# Altium footprint library PCB_PassiveCap.PcbLib: 27 footprints (part 2 of 2)
Each footprint in its own frame and in the unit in brackets; x right, y up, seen from the top. Pads: shape width x height; smd on the part's side, far side on the other; paste and mask are expansions set on the pad; w line width, h text height; cw(c..) or ccw(c..) is an arc to the next point about the centre after c.
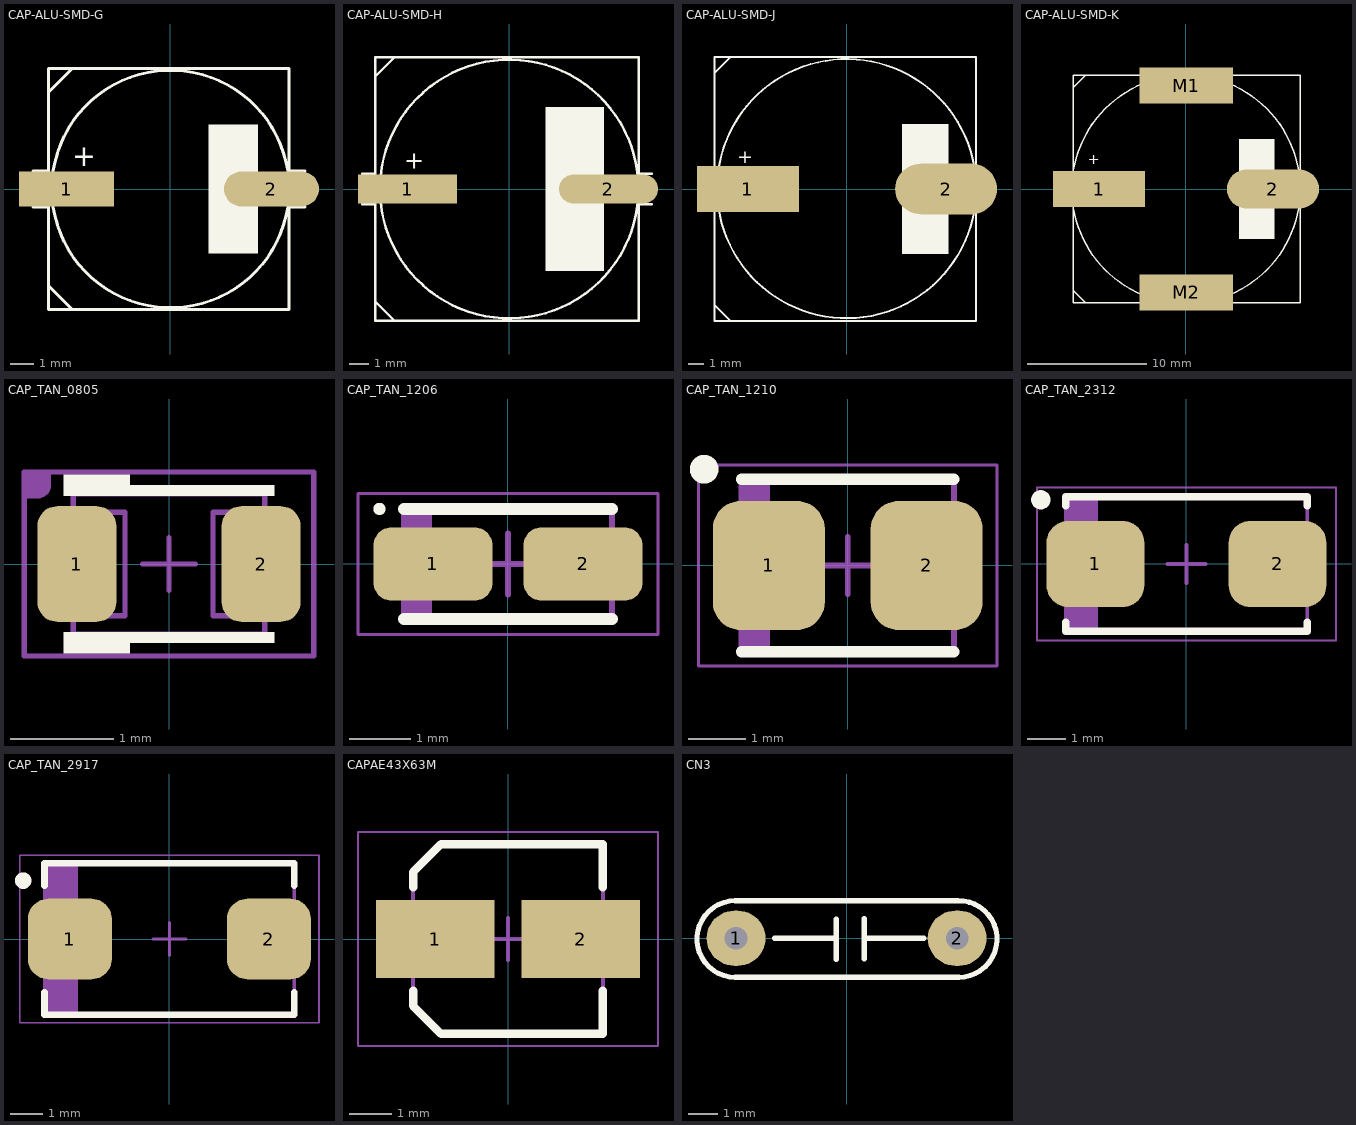
[diagram p1: the footprints below, top view; thin cyan lines are the x and y axes]

## CAP-ALU-SMD-G [mil]
pads (2):
  rect 160x59.06 smd: 1(-175,0)
  oval 160x59.06 smd: 2(170,0)
Top Overlay:
  circle w5: c0,0 r199.81
  rectangle: 63.98,-108.27 147.64,108.27
  lines w5: -231.3,-30.51 -205.71,-30.51 ; -231.3,30.51 -205.71,30.51 ; -205.71,-163.39 -205.71,0 ; -205.71,-104.33 -205.71,0 ; -205.71,104.33 -205.71,0 ; -205.71,163.39 -205.71,0 ; -204.72,-163.39 -165.35,-202.76 ; -204.72,163.39 -165.35,202.76 ; 199.8,-30.51 226.38,-30.51 ; 199.81,0 ccw(c39.37,0) 199.8,0.99 ; 199.8,30.51 226.38,30.51 ; -205.71,-202.76 199.8,-202.76 199.8,-0.98 ; -205.71,-202.76 -205.71,-202.76 ; -205.71,-202.76 -205.71,0 ; -205.71,-129.92 -205.71,-129.92 ; -205.71,-129.92 -205.71,0 ; -205.71,0 -205.71,202.76 ; -205.71,0 -205.71,129.92 ; -205.71,129.92 -205.71,129.92 ; -205.71,202.76 199.8,202.76 199.8,0.98 ; -205.71,202.76 -205.71,202.76 ; 199.8,-0.98 199.8,-0.98 ; 199.8,0.98 199.8,0.98
  text "+" at -165.35,38.39 h35
3D body "User Library-ALU-G.STEP": height 401.57, standoff 0, extent -233.35,-202.75 223.34,202.76

## CAP-ALU-SMD-H [mm]
pads (2):
  rect 5.08x1.5 smd: 1(-5.207,0)
  oval 5.08x1.5 smd: 2(5.08,0)
Top Overlay:
  circle w0.127: c0,0 r6.625
  rectangle: 1.85,-4.2 4.85,4.2
  lines w0.127: -7.525,-0.775 -6.875,-0.775 ; -7.525,0.775 -6.875,0.775 ; -6.875,-5.75 -5.875,-6.75 ; -6.875,5.75 -5.875,6.75 ; 6.625,-0.775 7.3,-0.775 ; 6.625,0.775 7.3,0.775 ; -6.875,-6.75 -6.875,0 -6.875,6.75 ; -6.875,-6.75 -6.875,-6.75 ; -6.875,-6.75 6.625,-6.75 6.625,0 6.625,6.75 -6.875,6.75 ; -6.875,6.75 -6.875,6.75 ; -6.875,-5.15 -6.875,-5.15 ; -6.875,5.15 -6.875,5.15
  text "+" at -5.375,1.05 h0.89
3D body "User Library-capacitor size H13.step": height 13.5, standoff -0.01, extent -7.154,-6.877 6.646,6.623

## CAP-ALU-SMD-J [mm]
pads (2):
  rect 6.6x3 smd: 1(-6.425,0)
  oval 6.6x3.3 smd: 2(6.425,0)
Top Overlay:
  rectangle: 3.575,-4.2 6.575,4.2
  lines w0.127: -8.575,-7.55 -7.575,-8.55 ; -8.575,7.55 -7.575,8.55 ; 8.375,0.025 ccw(c-0.025,0.025) 8.375,0 ; -8.6,-6.75 -8.6,0 ; -8.6,-6.75 -8.6,-6.75 ; -8.6,0 -8.6,8.55 8.35,8.55 8.375,8.575 8.375,0 ; -8.6,0 -8.6,6.75 ; -8.6,0 -8.6,-8.55 8.35,-8.55 8.375,-8.575 8.375,0 ; -8.6,6.75 -8.6,6.75 ; -8.6,-5.15 -8.6,-5.15 ; -8.6,5.15 -8.6,5.15
  text "+" at -7.125,1.675 h0.89
3D body "User Library-capacitor size J16.step": height 16.5, standoff -0.01, extent -8.977,-8.5 8.723,8.5

## CAP-ALU-SMD-K [mm]
pads (4):
  rect 7.7x3 smd: 1(-7.275,0)
  oval 7.7x3.3 smd: 2(7.275,0)
  rect 7.8x3 smd: M1(0.025,8.65) M2(0.025,-8.65)
Top Overlay:
  circle w0.127: c0,-0.025 r9.55
  rectangle: 4.425,-4.2 7.425,4.2
  lines w0.127: -9.45,-8.55 -9.45,0 ; -9.45,8.55 -9.45,0 ; -9.425,-8.5 -8.425,-9.5 ; -9.425,8.5 -8.425,9.5 ; 9.55,-0.025 9.55,-9.5 -9.45,-9.5 ; 9.55,0.025 9.55,9.5 -9.45,9.5 ; -9.45,-9.5 -9.45,0 ; -9.45,-9.5 -9.45,-9.5 ; -9.45,-6.75 -9.45,-6.75 ; -9.45,-6.75 -9.45,0 ; -9.45,0 -9.45,6.75 ; -9.45,0 -9.45,9.5 ; -9.45,6.75 -9.45,6.75 ; -9.45,9.5 -9.45,9.5 ; -9.45,-5.15 -9.45,-5.15 ; -9.45,5.15 -9.45,5.15
  text "+" at -8.2,2.075 h0.89
3D body "User Library-capacitor size K16.step": height 16.5, standoff -0.01, extent -10.05,-9.5 10.05,9.5

## CAP_TAN_0805 [mil]
height 59.06
pads (2):
  rrect50% 30x44 smd: 1(-35,0) 2(35,0)
Top Overlay:
  region: 40,-30 -15,-30 -15,-34 -40,-34 -40,-26 40,-26
  region: 40,26 -40,26 -40,34 -15,34 -15,30 40,30
Mechanical 13:
  lines w2: -10,0 10,0 ; 0,-10 0,10 ; -40.35,-19.68 -40.35,19.68 -16.73,19.68 -16.73,-19.68 -40.35,-19.68 ; -36.42,-26.57 36.42,-26.57 36.42,26.57 -36.42,26.57 -36.42,-26.57 ; 16.73,-19.68 16.73,19.68 40.35,19.68 40.35,-19.68 16.73,-19.68
T-Component:
  region: -55,35 -45,35 -45,30 -45,29.01 -45.76,27.17 -47.17,25.76 -49.01,25 -50,25 -55,25
  lines w2: -55,-35 -55,35 55,35 55,-35 -55,-35
3D body "CAPMP2012X150N.STEP": height 59.06, standoff 0, extent -40.35,-26.57 40.36,26.58

## CAP_TAN_1206 [mm] "Molded Capacitor, 2-Leads, Body 3.20x1.60mm, IPC Medium Density"
height 1.8
pads (2):
  rrect50% 1.95x1.2 smd: 1(-1.225,0) 2(1.225,0)
Top Overlay:
  circle w0.1: c-2.1,0.9 r0.05
  lines w0.2: -1.7,-0.9 1.7,-0.9 ; -1.7,0.9 1.7,0.9
Mechanical 13:
  rectangle: -1.7,-0.9 -1.243,0.9
  lines w0.1: -1.7,-0.9 1.7,-0.9 1.7,0.9 -1.7,0.9 -1.7,-0.9
B-Component:
  lines w0.05: -2.45,-1.15 2.45,-1.15 2.45,1.15 -2.45,1.15 -2.45,-1.15
  lines w0.1: -0.5,0 0.5,0 ; 0,-0.5 0,0.5
3D body "CAPMP3216X180N.STEP": height 1.8, standoff 0, extent -1.6,-0.8 1.6,0.8

## CAP_TAN_1210 [mm] "Molded Capacitor, 2-Leads, Body 3.50x2.80mm, IPC Medium Density"
height 2.1
pads (2):
  rrect50% 1.95x2.25 smd: 1(-1.375,0) 2(1.375,0)
Top Overlay:
  circle w0.25: c-2.5,1.675 r0.125
  lines w0.2: -1.85,-1.5 1.85,-1.5 ; -1.85,1.5 1.85,1.5
Mechanical 13:
  rectangle: -1.85,-1.5 -1.352,1.5
  lines w0.1: -1.85,-1.5 -1.85,1.5 1.85,1.5 1.85,-1.5 -1.85,-1.5
B-Component:
  lines w0.05: -2.6,-1.75 -2.6,1.75 2.6,1.75 2.6,-1.75 -2.6,-1.75
  lines w0.1: -0.5,0 0.5,0 ; 0,-0.5 0,0.5
3D body "CAPMP3528X210N.STEP": height 2.1, standoff 0, extent -1.75,-1.4 1.75,1.4

## CAP_TAN_2312 [mm] "Molded Capacitor, 2-Leads, Body 6.00x3.20mm, IPC Medium Density"
height 2.8
pads (2):
  rrect50% 2.55x2.25 smd: 1(-2.375,0) 2(2.375,0)
Top Overlay:
  circle w0.25: c-3.8,1.675 r0.125
  lines w0.2: -3.15,-1.525 -3.15,-1.75 3.15,-1.75 3.15,-1.525 ; -3.15,1.525 -3.15,1.75 3.15,1.75 3.15,1.525
Mechanical 13:
  rectangle: -3.15,-1.75 -2.303,1.75
  lines w0.1: -3.15,-1.75 -3.15,1.75 3.15,1.75 3.15,-1.75 -3.15,-1.75
B-Component:
  lines w0.05: -3.9,-2 -3.9,2 3.9,2 3.9,-2 -3.9,-2
  lines w0.1: -0.5,0 0.5,0 ; 0,-0.5 0,0.5
3D body "User Library-CAP_TANT_6032-28_y.STEP": height 2.8, standoff 0, extent -3.15,-1.75 3.15,1.75

## CAP_TAN_2917 [mm] "Molded Capacitor, 2-Leads, Body 7.30x4.30mm, IPC Medium Density"
height 3.1
pads (2):
  rrect50% 2.55x2.45 smd: 1(-3.025,0) 2(3.025,0)
Top Overlay:
  circle w0.25: c-4.45,1.775 r0.125
  lines w0.2: -3.8,-1.625 -3.8,-2.3 3.8,-2.3 3.8,-1.625 ; -3.8,1.625 -3.8,2.3 3.8,2.3 3.8,1.625
Mechanical 13:
  rectangle: -3.8,-2.3 -2.778,2.3
  lines w0.1: -3.8,-2.3 -3.8,2.3 3.8,2.3 3.8,-2.3 -3.8,-2.3
B-Component:
  lines w0.05: -4.55,-2.55 -4.55,2.55 4.55,2.55 4.55,-2.55 -4.55,-2.55
  lines w0.1: -0.5,0 0.5,0 ; 0,-0.5 0,0.5
3D body "CAPMP7343X310N.STEP": height 3.1, standoff 0, extent -3.8,-1.975 3.8,1.975

## CAPAE43X63M [mm] "Aluminum Electrolytic Capacitor, Body 4.30x4.30x6.30mm, IPC Low Density"
height 6.3
pads (2):
  rect 2.8x1.85 smd: 1(-1.725,0) 2(1.725,0)
Top Overlay:
  lines w0.2: -2.25,-1.225 -2.25,-1.587 -1.587,-2.25 2.25,-2.25 2.25,-1.225 ; -2.25,1.225 -2.25,1.587 -1.587,2.25 2.25,2.25 2.25,1.225
Mechanical 13:
  lines w0.1: -2.25,-1.587 -2.25,1.587 -1.587,2.25 2.25,2.25 2.25,-2.25 -1.587,-2.25 -2.25,-1.587
B-Component:
  lines w0.05: -3.556,-2.54 3.556,-2.54 3.556,2.54 -3.556,2.54 -3.556,-2.54
  lines w0.1: -0.5,0 0.5,0 ; 0,-0.5 0,0.5
3D body: height 6.3, standoff 0, extent -2.25,-2.25 2.25,2.243
3D body: height 2.1, standoff 0, extent -2.25,-2.25 2.25,2.25

## CN3 [mil] "Cap np W 0.3"
height 200
pads (2):
  oval 80x75 hole 31: 1(-150,0) 2(150,0)
Top Overlay:
  lines w7: -151,-53 cw(c-151,-1) -151,51 ; -150,51 150,51 ; -149,-53 150,-53 ; -98,0 -14,0 ; -14,-29 -14,26 ; 24,-28 24,27 ; 24,0 105,0 ; 150.96,50.99 cw(c152,-1) 152,-53
3D body "SW3dPS-Panasonic ECK-A3D102KBP.STEP": height 419.15, standoff -100, extent -157.5,-40 157.5,54.19